# Altium schematic symbol library OPL_IC.SCHLIB: 50 symbols
Pins are listed as number, name and electrical type; pins without a type are passive.

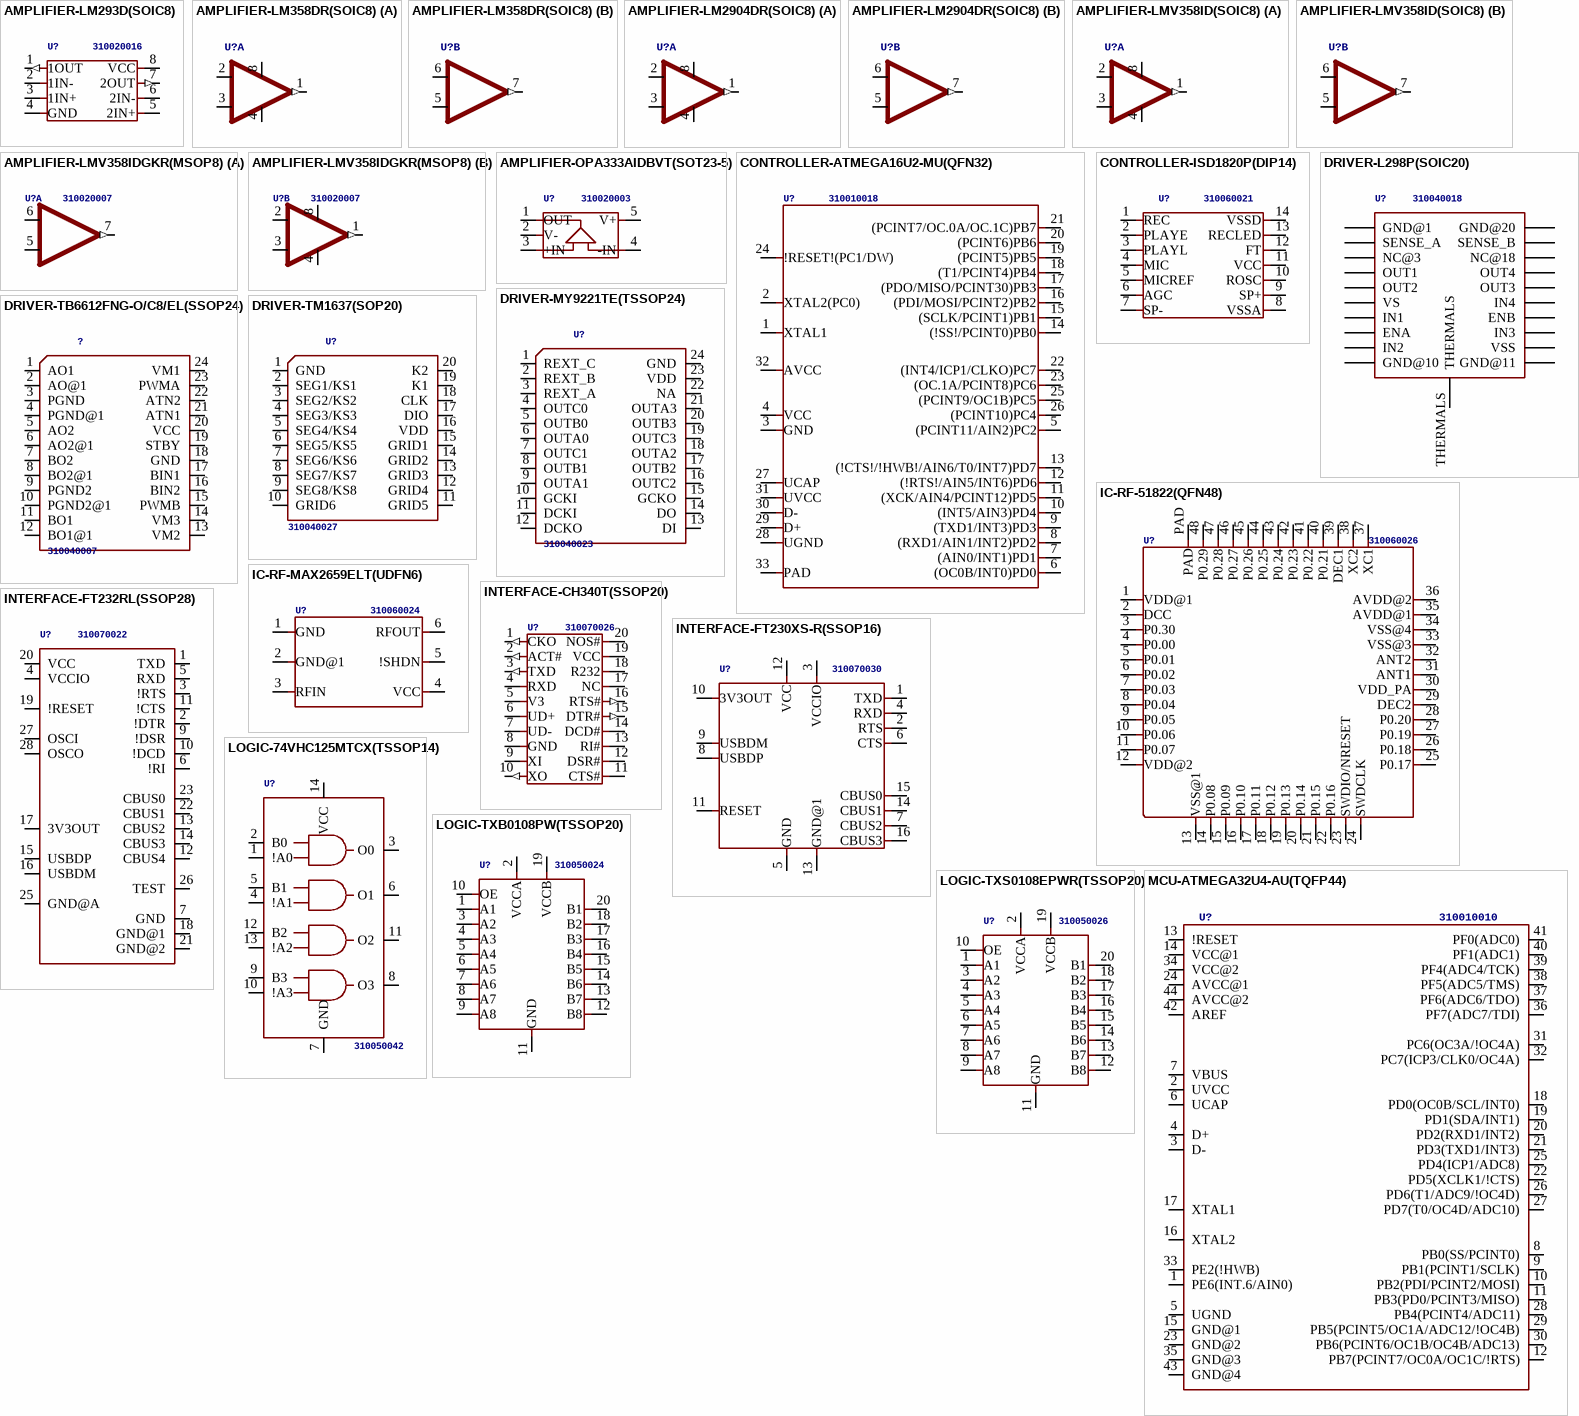
[diagram p0: symbols AMPLIFIER-LM293D(SOIC8) to MCU-ATMEGA32U4-AU(TQFP44)]

## AMPLIFIER-LM293D(SOIC8)
designator U?, comment 310020016
MPN: LM293D
footprint SOIC8-1.27-5X4MM
pins: 1 1OUT (out), 2 1IN-, 3 1IN+, 4 GND (oe), 5 2IN+, 6 2IN-, 7 2OUT (out), 8 VCC (oe)

## AMPLIFIER-LM358DR(SOIC8)
designator U?, comment 310020021  (value not drawn)
MPN: LM358DR
footprint SOIC8-1.27-5X4MM
part A pins: 1 OUT1 (out), 2 -IN1, 3 +IN1, 4 GND (power), 8 +V (power)
part B pins: 5 +IN2, 6 -IN2, 7 OUT2 (out)

## AMPLIFIER-LM2904DR(SOIC8)
designator U?, comment 310020015  (value not drawn)
MPN: LM2904DR
footprint SOIC8-1.27-5X4MM
part A pins: 1 OUT1 (out), 2 -IN1, 3 +IN1, 4 GND (power), 8 +V (power)
part B pins: 5 +IN2, 6 -IN2, 7 OUT2 (out)

## AMPLIFIER-LMV358ID(SOIC8)
designator U?, comment 310020002  (value not drawn)
MPN: LMV358ID
footprint SOIC8-1.27-5X4MM
part A pins: 1 OUT1 (out), 2 -IN1, 3 +IN1, 4 GND (power), 8 +V (power)
part B pins: 5 +IN2, 6 -IN2, 7 OUT2 (out)

## AMPLIFIER-LMV358IDGKR(MSOP8)
designator U?, comment 310020007
MPN: LMV358IDGKR
footprint MSOP8-0.65-3X3MM
part A pins: 5 +IN2, 6 -IN2, 7 OUT2 (out)
part B pins: 1 OUT1 (out), 2 -IN1, 3 +IN1, 4 GND (power), 8 +V (power)

## AMPLIFIER-OPA333AIDBVT(SOT23-5)
designator U?, comment 310020003
MPN: OPA333AIDBVT
footprint SOT-23-5
pins: 1 OUT, 2 V-, 3 +IN, 4 -IN, 5 V+

## CONTROLLER-ATMEGA16U2-MU(QFN32)
designator U?, comment 310010018
footprint QFN32G-0.5-5X5MM
pins: 1 XTAL1, 2 XTAL2(PC0), 3 GND, 4 VCC, 5 (PCINT11/AIN2)PC2, 6 (OC0B/INT0)PD0, 7 (AIN0/INT1)PD1, 8 (RXD1/AIN1/INT2)PD2, 9 (TXD1/INT3)PD3, 10 (INT5/AIN3)PD4, 11 (XCK/AIN4/PCINT12)PD5, 12 (!RTS!/AIN5/INT6)PD6, 13 (!CTS!/!HWB!/AIN6/T0/INT7)PD7, 14 (!SS!/PCINT0)PB0, 15 (SCLK/PCINT1)PB1, 16 (PDI/MOSI/PCINT2)PB2, 17 (PDO/MISO/PCINT30)PB3, 18 (T1/PCINT4)PB4, 19 (PCINT5)PB5, 20 (PCINT6)PB6, 21 (PCINT7/OC.0A/OC.1C)PB7, 22 (INT4/ICP1/CLKO)PC7, 23 (OC.1A/PCINT8)PC6, 24 !RESET!(PC1/DW), 25 (PCINT9/OC1B)PC5, 26 (PCINT10)PC4, 27 UCAP, 28 UGND, 29 D+, 30 D-, 31 UVCC, 32 AVCC, 33 PAD

## CONTROLLER-ISD1820P(DIP14)
designator U?, comment 310060021
footprint DIP14-2.54-17.24X6.35MM
pins: 1 REC, 2 PLAYE, 3 PLAYL, 4 MIC, 5 MICREF, 6 AGC, 7 SP-, 8 VSSA, 9 SP+, 10 ROSC, 11 VCC, 12 FT, 13 RECLED, 14 VSSD

## DRIVER-L298P(SOIC20)
designator U?, comment 310040018
MPN: L298P
footprint SOIC20G-1.27-16X11MM
pins: 1 GND@1, 2 SENSE_A, 3 NC@3, 4 OUT1, 5 OUT2, 6 VS, 7 IN1, 8 ENA, 9 IN2, 10 GND@10, 11 GND@11, 12 VSS, 13 IN3, 14 ENB, 15 IN4, 16 OUT3, 17 OUT4, 18 NC@18, 19 SENSE_B, 20 GND@20, THERMALS

## DRIVER-MY9221TE(TSSOP24)
designator U?, comment 310040023
MPN: MY9221
footprint TSSOP24-0.65-7.8X4.4MM
pins: 1 REXT_C, 2 REXT_B, 3 REXT_A, 4 OUTC0, 5 OUTB0, 6 OUTA0, 7 OUTC1, 8 OUTB1, 9 OUTA1, 10 GCKI, 11 DCKI, 12 DCKO, 13 DI, 14 DO, 15 GCKO, 16 OUTC2, 17 OUTB2, 18 OUTA2, 19 OUTC3, 20 OUTB3, 21 OUTA3, 22 NA, 23 VDD, 24 GND

## DRIVER-TB6612FNG-O/C8/EL(SSOP24)
designator ?, comment 310040007
MPN: TB6612FNG-O/C8/EL
footprint SSOP24-0.65-8.9X5.3MM
pins: 1 AO1, 2 AO@1, 3 PGND, 4 PGND@1, 5 AO2, 6 AO2@1, 7 BO2, 8 BO2@1, 9 PGND2, 10 PGND2@1, 11 BO1, 12 BO1@1, 13 VM2, 14 VM3, 15 PWMB, 16 BIN2, 17 BIN1, 18 GND, 19 STBY, 20 VCC, 21 ATN1, 22 ATN2, 23 PWMA, 24 VM1

## DRIVER-TM1637(SOP20)
designator U?, comment 310040027
MPN: TM1637
footprint SOP20-1.27-12.7X7.65MM
pins: 1 GND, 2 SEG1/KS1, 3 SEG2/KS2, 4 SEG3/KS3, 5 SEG4/KS4, 6 SEG5/KS5, 7 SEG6/KS6, 8 SEG7/KS7, 9 SEG8/KS8, 10 GRID6, 11 GRID5, 12 GRID4, 13 GRID3, 14 GRID2, 15 GRID1, 16 VDD, 17 DIO, 18 CLK, 19 K1, 20 K2

## IC-RF-51822(QFN48)
designator U?, comment 310060026
MPN: RF-51822
footprint QFN48G-0.4-6X6MM
pins: 1 VDD@1, 2 DCC, 3 P0.30, 4 P0.00, 5 P0.01, 6 P0.02, 7 P0.03, 8 P0.04, 9 P0.05, 10 P0.06, 11 P0.07, 12 VDD@2, 13 VSS@1, 14 P0.08, 15 P0.09, 16 P0.10, 17 P0.11, 18 P0.12, 19 P0.13, 20 P0.14, 21 P0.15, 22 P0.16, 23 SWDIO/NRESET, 24 SWDCLK, 25 P0.17, 26 P0.18, 27 P0.19, 28 P0.20, 29 DEC2, 30 VDD_PA, 31 ANT1, 32 ANT2, 33 VSS@3, 34 VSS@4, 35 AVDD@1, 36 AVDD@2, 37 XC1, 38 XC2, 39 DEC1, 40 P0.21, 41 P0.22, 42 P0.23, 43 P0.24, 44 P0.25, 45 P0.26, 46 P0.27, 47 P0.28, 48 P0.29, PAD

## IC-RF-MAX2659ELT(UDFN6)
designator U?, comment 310060024
MPN: MAX2659ELT
footprint DFN6-0.5-1.5X1.0X0.72MM
pins: 1 GND (oe), 2 GND@1 (oe), 3 RFIN, 4 VCC, 5 !SHDN, 6 RFOUT

## INTERFACE-CH340T(SSOP20)
designator U?, comment 310070026
MPN: CH340T
footprint SSOP20-0.65-7.6X5.2MM
pins: 1 CKO (out), 2 ACT# (out), 3 TXD (out), 4 RXD, 5 V3 (oe), 6 UD+, 7 UD-, 8 GND (oe), 9 XI, 10 XO (out), 11 CTS#, 12 DSR#, 13 RI#, 14 DCD#, 15 DTR# (out), 16 RTS# (out), 17 NC, 18 R232, 19 VCC (oe), 20 NOS# (oe)

## INTERFACE-FT230XS-R(SSOP16)
designator U?, comment 310070030
MPN: FT230XS-R
footprint SSOP16-0.635-5X4MM
pins: 1 TXD, 2 RTS, 3 VCCIO, 4 RXD, 5 GND, 6 CTS, 7 CBUS2, 8 USBDP, 9 USBDM, 10 3V3OUT, 11 RESET, 12 VCC, 13 GND@1, 14 CBUS1, 15 CBUS0, 16 CBUS3

## INTERFACE-FT232RL(SSOP28)
designator U?, comment 310070022
MPN: FT232RL
footprint SSOP28-0.65-10.2X5.2MM
pins: 1 TXD, 2 !DTR, 3 !RTS, 4 VCCIO, 5 RXD, 6 !RI, 7 GND, 9 !DSR, 10 !DCD, 11 !CTS, 12 CBUS4, 13 CBUS2, 14 CBUS3, 15 USBDP, 16 USBDM, 17 3V3OUT, 18 GND@1, 19 !RESET, 20 VCC, 21 GND@2, 22 CBUS1, 23 CBUS0, 25 GND@A, 26 TEST, 27 OSCI, 28 OSCO

## LOGIC-74VHC125MTCX(TSSOP14)
designator U?, comment 310050042
MPN: 74VHC125MTCX
footprint TSSOP14-0.65-5X4.4MM
pins: 1 !A0 (oe), 2 B0, 3 O0, 4 !A1 (oe), 5 B1, 6 O1, 7 GND (oe), 8 O3, 9 B3, 10 !A3, 11 O2, 12 B2, 13 !A2, 14 VCC (power)

## LOGIC-TXB0108PW(TSSOP20)
designator U?, comment 310050024
MPN: TXB0108PW
footprint TSSOP20-0.65-6.5X4.4MM
pins: 1 A1, 2 VCCA, 3 A2, 4 A3, 5 A4, 6 A5, 7 A6, 8 A7, 9 A8, 10 OE, 11 GND, 12 B8, 13 B7, 14 B6, 15 B5, 16 B4, 17 B3, 18 B2, 19 VCCB, 20 B1

## LOGIC-TXS0108EPWR(TSSOP20)
designator U?, comment 310050026
MPN: TXS0108EPWR
footprint TSSOP20-0.65-6.5X4.4MM
pins: 1 A1, 2 VCCA, 3 A2, 4 A3, 5 A4, 6 A5, 7 A6, 8 A7, 9 A8, 10 OE, 11 GND, 12 B8, 13 B7, 14 B6, 15 B5, 16 B4, 17 B3, 18 B2, 19 VCCB, 20 B1

## MCU-ATMEGA32U4-AU(TQFP44)
designator U?, comment 310010010
MPN: ATMEGA32U4
footprint TQFP44-0.8-9.6X9.6MM
pins: 1 PE6(INT.6/AIN0), 2 UVCC, 3 D-, 4 D+, 5 UGND, 6 UCAP, 7 VBUS, 8 PB0(SS/PCINT0), 9 PB1(PCINT1/SCLK), 10 PB2(PDI/PCINT2/MOSI), 11 PB3(PD0/PCINT3/MISO), 12 PB7(PCINT7/OC0A/OC1C/!RTS), 13 !RESET, 14 VCC@1, 15 GND@1, 16 XTAL2, 17 XTAL1, 18 PD0(OC0B/SCL/INT0), 19 PD1(SDA/INT1), 20 PD2(RXD1/INT2), 21 PD3(TXD1/INT3), 22 PD5(XCLK1/!CTS), 23 GND@2, 24 AVCC@1, 25 PD4(ICP1/ADC8), 26 PD6(T1/ADC9/!OC4D), 27 PD7(T0/OC4D/ADC10), 28 PB4(PCINT4/ADC11), 29 PB5(PCINT5/OC1A/ADC12/!OC4B), 30 PB6(PCINT6/OC1B/OC4B/ADC13), 31 PC6(OC3A/!OC4A), 32 PC7(ICP3/CLK0/OC4A), 33 PE2(!HWB), 34 VCC@2, 35 GND@3, 36 PF7(ADC7/TDI), 37 PF6(ADC6/TDO), 38 PF5(ADC5/TMS), 39 PF4(ADC4/TCK), 40 PF1(ADC1), 41 PF0(ADC0), 42 AREF, 43 GND@4, 44 AVCC@2

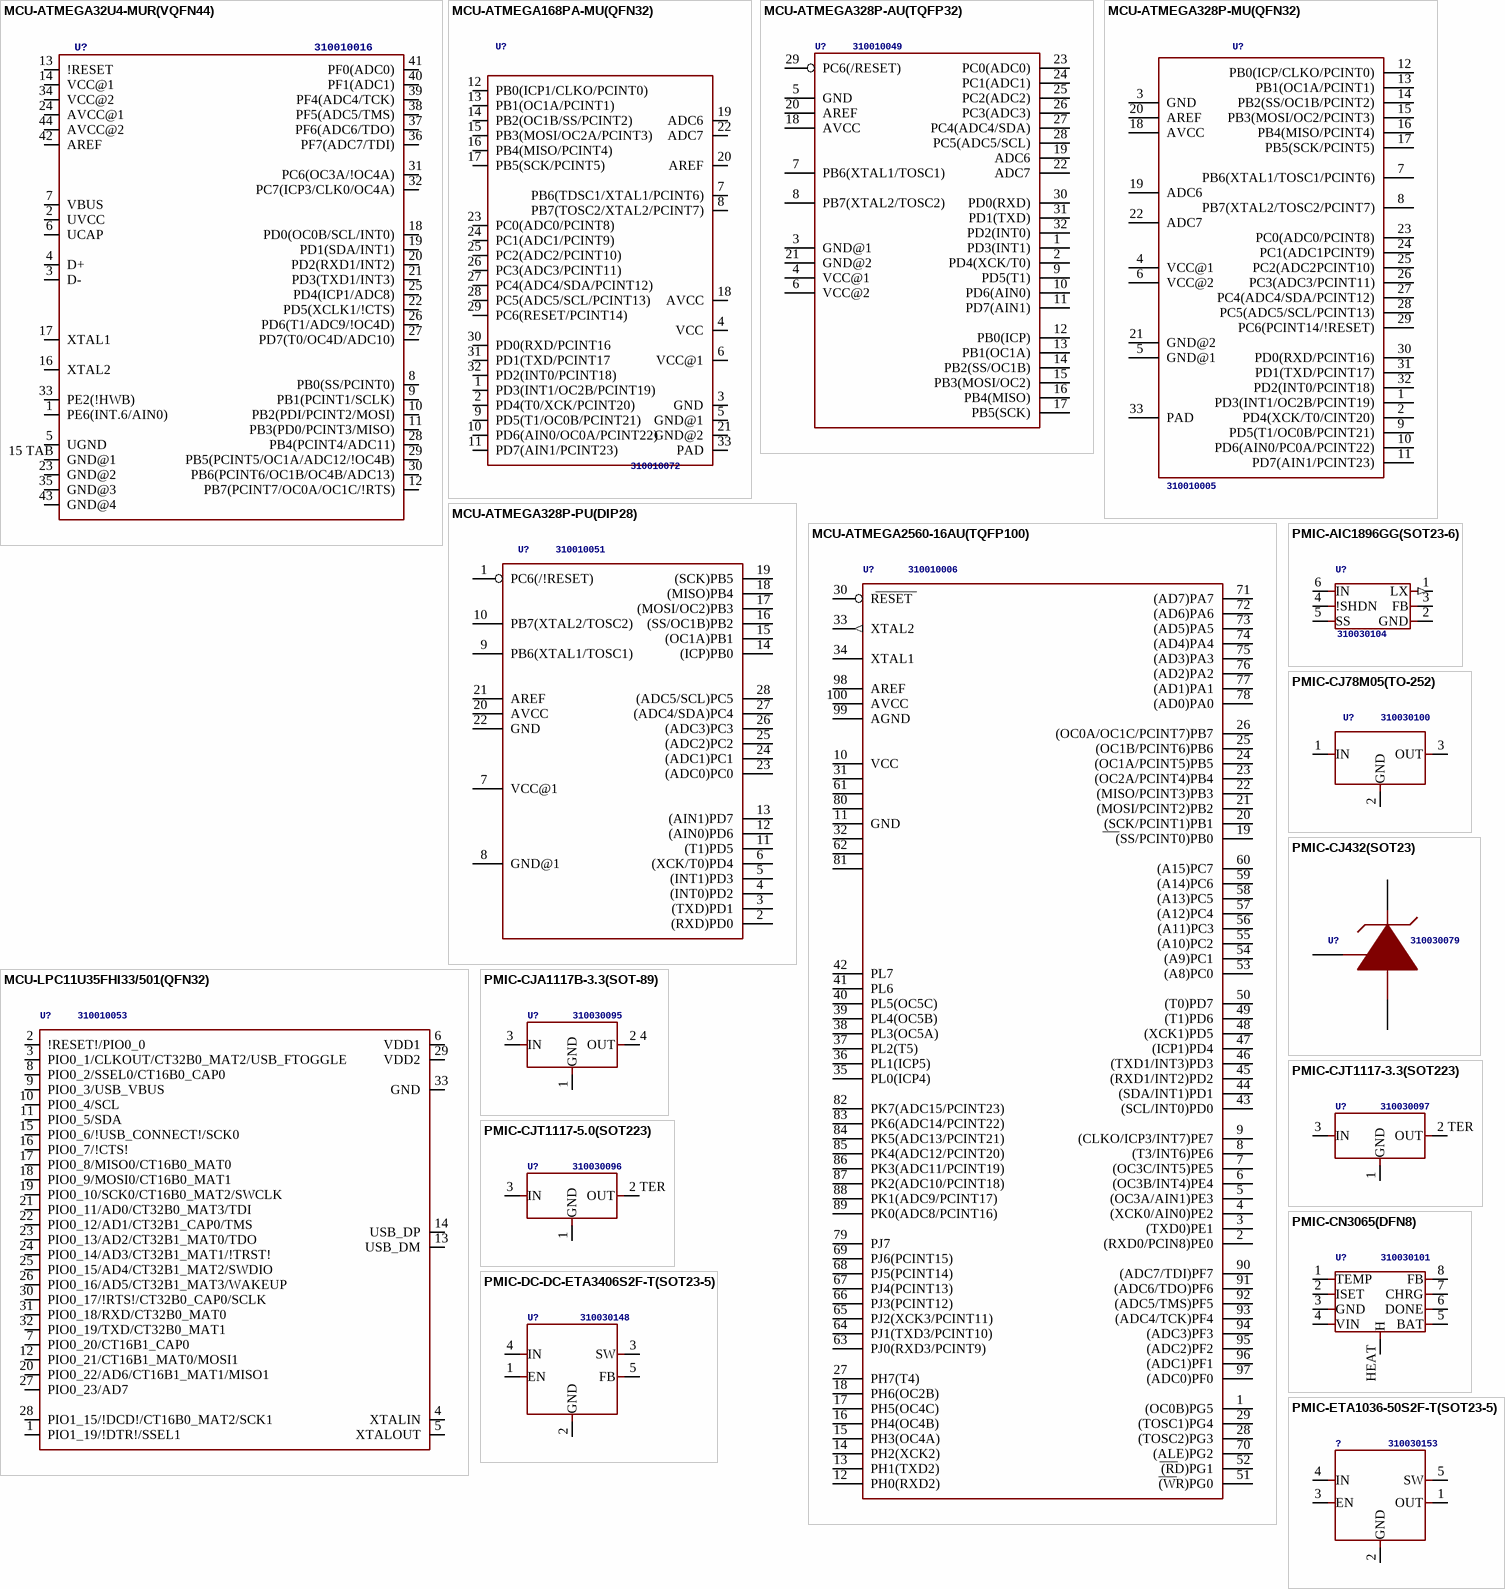
[diagram p1: symbols MCU-ATMEGA32U4-MUR(VQFN44) to PMIC-ETA1036-50S2F-T(SOT23-5)]

## MCU-ATMEGA32U4-MUR(VQFN44)
designator U?, comment 310010016
MPN: ATMEGA32U4-MUR
footprint QFN44G-0.5-7X7MM
pins: 1 PE6(INT.6/AIN0), 2 UVCC, 3 D-, 4 D+, 5 UGND, 6 UCAP, 7 VBUS, 8 PB0(SS/PCINT0), 9 PB1(PCINT1/SCLK), 10 PB2(PDI/PCINT2/MOSI), 11 PB3(PD0/PCINT3/MISO), 12 PB7(PCINT7/OC0A/OC1C/!RTS), 13 !RESET, 14 VCC@1, 15 TAB GND@1, 16 XTAL2, 17 XTAL1, 18 PD0(OC0B/SCL/INT0), 19 PD1(SDA/INT1), 20 PD2(RXD1/INT2), 21 PD3(TXD1/INT3), 22 PD5(XCLK1/!CTS), 23 GND@2, 24 AVCC@1, 25 PD4(ICP1/ADC8), 26 PD6(T1/ADC9/!OC4D), 27 PD7(T0/OC4D/ADC10), 28 PB4(PCINT4/ADC11), 29 PB5(PCINT5/OC1A/ADC12/!OC4B), 30 PB6(PCINT6/OC1B/OC4B/ADC13), 31 PC6(OC3A/!OC4A), 32 PC7(ICP3/CLK0/OC4A), 33 PE2(!HWB), 34 VCC@2, 35 GND@3, 36 PF7(ADC7/TDI), 37 PF6(ADC6/TDO), 38 PF5(ADC5/TMS), 39 PF4(ADC4/TCK), 40 PF1(ADC1), 41 PF0(ADC0), 42 AREF, 43 GND@4, 44 AVCC@2

## MCU-ATMEGA168PA-MU(QFN32)
designator U?, comment 310010072
footprint QFN32G-0.5-5X5MM
pins: 1 PD3(INT1/OC2B/PCINT19), 2 PD4(T0/XCK/PCINT20), 3 GND, 4 VCC, 5 GND@1, 6 VCC@1, 7 PB6(TDSC1/XTAL1/PCINT6), 8 PB7(TOSC2/XTAL2/PCINT7), 9 PD5(T1/OC0B/PCINT21), 10 PD6(AIN0/OC0A/PCINT22), 11 PD7(AIN1/PCINT23), 12 PB0(ICP1/CLKO/PCINT0), 13 PB1(OC1A/PCINT1), 14 PB2(OC1B/SS/PCINT2), 15 PB3(MOSI/OC2A/PCINT3), 16 PB4(MISO/PCINT4), 17 PB5(SCK/PCINT5), 18 AVCC, 19 ADC6, 20 AREF, 21 GND@2, 22 ADC7, 23 PC0(ADC0/PCINT8), 24 PC1(ADC1/PCINT9), 25 PC2(ADC2/PCINT10), 26 PC3(ADC3/PCINT11), 27 PC4(ADC4/SDA/PCINT12), 28 PC5(ADC5/SCL/PCINT13), 29 PC6(RESET/PCINT14), 30 PD0(RXD/PCINT16, 31 PD1(TXD/PCINT17, 32 PD2(INT0/PCINT18), 33 PAD

## MCU-ATMEGA328P-AU(TQFP32)
designator U?, comment 310010049
MPN: ATMEGA328P-AU
footprint TQFP32-0.8-7X7MM
pins: 1 PD3(INT1), 2 PD4(XCK/T0), 3 GND@1, 4 VCC@1, 5 GND, 6 VCC@2, 7 PB6(XTAL1/TOSC1), 8 PB7(XTAL2/TOSC2), 9 PD5(T1), 10 PD6(AIN0), 11 PD7(AIN1), 12 PB0(ICP), 13 PB1(OC1A), 14 PB2(SS/OC1B), 15 PB3(MOSI/OC2), 16 PB4(MISO), 17 PB5(SCK), 18 AVCC, 19 ADC6, 20 AREF, 21 GND@2, 22 ADC7, 23 PC0(ADC0), 24 PC1(ADC1), 25 PC2(ADC2), 26 PC3(ADC3), 27 PC4(ADC4/SDA), 28 PC5(ADC5/SCL), 29 PC6(/RESET), 30 PD0(RXD), 31 PD1(TXD), 32 PD2(INT0)

## MCU-ATMEGA328P-MU(QFN32)
designator U?, comment 310010005
MPN: ATMEGA328P-MU
footprint QFN32G-0.5-5X5MM
pins: 1 PD3(INT1/OC2B/PCINT19), 2 PD4(XCK/T0/CINT20), 3 GND, 4 VCC@1, 5 GND@1, 6 VCC@2, 7 PB6(XTAL1/TOSC1/PCINT6), 8 PB7(XTAL2/TOSC2/PCINT7), 9 PD5(T1/OC0B/PCINT21), 10 PD6(AIN0/PC0A/PCINT22), 11 PD7(AIN1/PCINT23), 12 PB0(ICP/CLKO/PCINT0), 13 PB1(OC1A/PCINT1), 14 PB2(SS/OC1B/PCINT2), 15 PB3(MOSI/OC2/PCINT3), 16 PB4(MISO/PCINT4), 17 PB5(SCK/PCINT5), 18 AVCC, 19 ADC6, 20 AREF, 21 GND@2, 22 ADC7, 23 PC0(ADC0/PCINT8), 24 PC1(ADC1PCINT9), 25 PC2(ADC2PCINT10), 26 PC3(ADC3/PCINT11), 27 PC4(ADC4/SDA/PCINT12), 28 PC5(ADC5/SCL/PCINT13), 29 PC6(PCINT14/!RESET), 30 PD0(RXD/PCINT16), 31 PD1(TXD/PCINT17), 32 PD2(INT0/PCINT18), 33 PAD

## MCU-ATMEGA328P-PU(DIP28)
designator U?, comment 310010051
MPN: ATMEGA328P-PU
footprint DIP28-2.54-34.7X7.62MM
pins: 1 PC6(/!RESET), 2 (RXD)PD0, 3 (TXD)PD1, 4 (INT0)PD2, 5 (INT1)PD3, 6 (XCK/T0)PD4, 7 VCC@1, 8 GND@1, 9 PB6(XTAL1/TOSC1), 10 PB7(XTAL2/TOSC2), 11 (T1)PD5, 12 (AIN0)PD6, 13 (AIN1)PD7, 14 (ICP)PB0, 15 (OC1A)PB1, 16 (SS/OC1B)PB2, 17 (MOSI/OC2)PB3, 18 (MISO)PB4, 19 (SCK)PB5, 20 AVCC, 21 AREF, 22 GND, 23 (ADC0)PC0, 24 (ADC1)PC1, 25 (ADC2)PC2, 26 (ADC3)PC3, 27 (ADC4/SDA)PC4, 28 (ADC5/SCL)PC5

## MCU-ATMEGA2560-16AU(TQFP100)
designator U?, comment 310010006
MPN: ATMEGA2560-16AU
footprint TQFP100-0.5-14X14MM
pins: 1 (OC0B)PG5, 2 (RXD0/PCIN8)PE0, 3 (TXD0)PE1, 4 (XCK0/AIN0)PE2, 5 (OC3A/AIN1)PE3, 6 (OC3B/INT4)PE4, 7 (OC3C/INT5)PE5, 8 (T3/INT6)PE6, 9 (CLKO/ICP3/INT7)PE7, 10 VCC (power), 11 GND (power), 12 PH0(RXD2), 13 PH1(TXD2), 14 PH2(XCK2), 15 PH3(OC4A), 16 PH4(OC4B), 17 PH5(OC4C), 18 PH6(OC2B), 19 (SS/PCINT0)PB0, 20 (SCK/PCINT1)PB1, 21 (MOSI/PCINT2)PB2, 22 (MISO/PCINT3)PB3, 23 (OC2A/PCINT4)PB4, 24 (OC1A/PCINT5)PB5, 25 (OC1B/PCINT6)PB6, 26 (OC0A/OC1C/PCINT7)PB7, 27 PH7(T4), 28 (TOSC2)PG3, 29 (TOSC1)PG4, 30 RESET, 31 VCC1 (power), 32 GND1 (power), 33 XTAL2 (out), 34 XTAL1, 35 PL0(ICP4), 36 PL1(ICP5), 37 PL2(T5), 38 PL3(OC5A), 39 PL4(OC5B), 40 PL5(OC5C), 41 PL6, 42 PL7, 43 (SCL/INT0)PD0, 44 (SDA/INT1)PD1, 45 (RXD1/INT2)PD2, 46 (TXD1/INT3)PD3, 47 (ICP1)PD4, 48 (XCK1)PD5, 49 (T1)PD6, 50 (T0)PD7, 51 (WR)PG0, 52 (RD)PG1, 53 (A8)PC0, 54 (A9)PC1, 55 (A10)PC2, 56 (A11)PC3, 57 (A12)PC4, 58 (A13)PC5, 59 (A14)PC6, 60 (A15)PC7, 61 VCC2 (power), 62 GND2 (power), 63 PJ0(RXD3/PCINT9), 64 PJ1(TXD3/PCINT10), 65 PJ2(XCK3/PCINT11), 66 PJ3(PCINT12), 67 PJ4(PCINT13), 68 PJ5(PCINT14), 69 PJ6(PCINT15), 70 (ALE)PG2, 71 (AD7)PA7, 72 (AD6)PA6, 73 (AD5)PA5, 74 (AD4)PA4, 75 (AD3)PA3, 76 (AD2)PA2, 77 (AD1)PA1, 78 (AD0)PA0, 79 PJ7, 80 VCC3 (power), 81 GND3 (power), 82 PK7(ADC15/PCINT23), 83 PK6(ADC14/PCINT22), 84 PK5(ADC13/PCINT21), 85 PK4(ADC12/PCINT20), 86 PK3(ADC11/PCINT19), 87 PK2(ADC10/PCINT18), 88 PK1(ADC9/PCINT17), 89 PK0(ADC8/PCINT16), 90 (ADC7/TDI)PF7, 91 (ADC6/TDO)PF6, 92 (ADC5/TMS)PF5, 93 (ADC4/TCK)PF4, 94 (ADC3)PF3, 95 (ADC2)PF2, 96 (ADC1)PF1, 97 (ADC0)PF0, 98 AREF, 99 AGND (power), 100 AVCC (power)

## MCU-LPC11U35FHI33/501(QFN32)
designator U?, comment 310010053
MPN: LPC11U35FHI33/501
footprint QFN32G-0.5-5X5MM
pins: 1 PIO1_19/!DTR!/SSEL1, 2 !RESET!/PIO0_0, 3 PIO0_1/CLKOUT/CT32B0_MAT2/USB_FTOGGLE, 4 XTALIN, 5 XTALOUT, 6 VDD1, 7 PIO0_20/CT16B1_CAP0, 8 PIO0_2/SSEL0/CT16B0_CAP0, 9 PIO0_3/USB_VBUS, 10 PIO0_4/SCL, 11 PIO0_5/SDA, 12 PIO0_21/CT16B1_MAT0/MOSI1, 13 USB_DM, 14 USB_DP, 15 PIO0_6/!USB_CONNECT!/SCK0, 16 PIO0_7/!CTS!, 17 PIO0_8/MISO0/CT16B0_MAT0, 18 PIO0_9/MOSI0/CT16B0_MAT1, 19 PIO0_10/SCK0/CT16B0_MAT2/SWCLK, 20 PIO0_22/AD6/CT16B1_MAT1/MISO1, 21 PIO0_11/AD0/CT32B0_MAT3/TDI, 22 PIO0_12/AD1/CT32B1_CAP0/TMS, 23 PIO0_13/AD2/CT32B1_MAT0/TDO, 24 PIO0_14/AD3/CT32B1_MAT1/!TRST!, 25 PIO0_15/AD4/CT32B1_MAT2/SWDIO, 26 PIO0_16/AD5/CT32B1_MAT3/WAKEUP, 27 PIO0_23/AD7, 28 PIO1_15/!DCD!/CT16B0_MAT2/SCK1, 29 VDD2, 30 PIO0_17/!RTS!/CT32B0_CAP0/SCLK, 31 PIO0_18/RXD/CT32B0_MAT0, 32 PIO0_19/TXD/CT32B0_MAT1, 33 GND

## PMIC-AIC1896GG(SOT23-6)
designator U?, comment 310030104
MPN: AIC1896CG
footprint SOT-23-6
pins: 1 LX (out), 2 GND (power), 3 FB, 4 !SHDN, 5 SS, 6 IN

## PMIC-CJ78M05(TO-252)
designator U?, comment 310030100
MPN: CJ78M05
footprint TO-252
pins: 1 IN, 2 GND, 3 OUT

## PMIC-CJ432(SOT23)
designator U?, comment 310030079
MPN: CJ432
footprint SOT-23
pins: 1 REFERENCE, 2 CATHODE, 3 ANODE

## PMIC-CJA1117B-3.3(SOT-89)
designator U?, comment 310030095
MPN: CJA1117B-3.3
footprint SOT-89
pins: 1 GND, 2 4 OUT, 3 IN

## PMIC-CJT1117-3.3(SOT223)
designator U?, comment 310030097
MPN: CJT1117-3.3
footprint SOT-223
pins: 1 GND, 2 TER OUT, 3 IN

## PMIC-CJT1117-5.0(SOT223)
designator U?, comment 310030096
MPN: CJT1117-5.0
footprint SOT-223
pins: 1 GND, 2 TER OUT, 3 IN

## PMIC-CN3065(DFN8)
designator U?, comment 310030101
MPN: CN3065
footprint DFN8G-0.5-3X3MM
pins: 1 TEMP, 2 ISET, 3 GND (oe), 4 VIN, 5 BAT, 6 DONE, 7 CHRG, 8 FB, HEAT H

## PMIC-DC-DC-ETA3406S2F-T(SOT23-5)
designator U?, comment 310030148
MPN: ETA3406S2F-T
footprint SOT-23-5
pins: 1 EN, 2 GND, 3 SW, 4 IN, 5 FB

## PMIC-ETA1036-50S2F-T(SOT23-5)
designator ?, comment 310030153
MPN: ETA1036-50S2F-T
footprint SOT-23-5
pins: 1 OUT, 2 GND, 3 EN, 4 IN, 5 SW

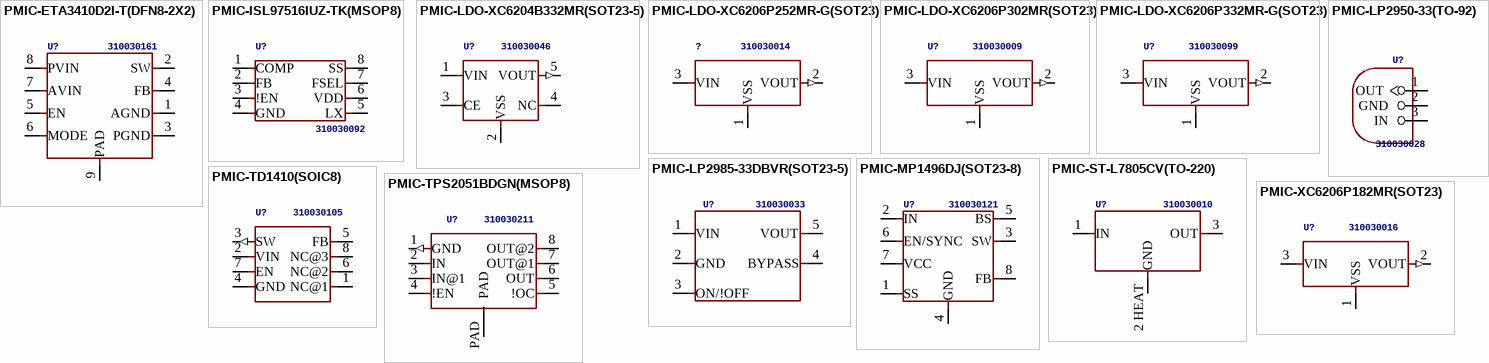
[diagram p2: symbols PMIC-ETA3410D2I-T(DFN8-2X2) to PMIC-XC6206P182MR(SOT23)]

## PMIC-ETA3410D2I-T(DFN8-2X2)
designator U?, comment 310030161
MPN: ETA3410D2I-T
footprint DFN8G-0.5-2X2MM
pins: 1 AGND, 2 SW, 3 PGND, 4 FB, 5 EN, 6 MODE, 7 AVIN, 8 PVIN, 9 PAD

## PMIC-ISL97516IUZ-TK(MSOP8)
designator U?, comment 310030092
MPN: ISL97516IUZ-TK
footprint MSOP8-0.65-3X3MM
pins: 1 COMP, 2 FB, 3 !EN, 4 GND (oe), 5 LX, 6 VDD (power), 7 FSEL, 8 SS

## PMIC-LDO-XC6204B332MR(SOT23-5)
designator U?, comment 310030046
MPN: XC6204B332MR
footprint SOT-23-5
pins: 1 VIN, 2 VSS (oe), 3 CE, 4 NC, 5 VOUT (out)

## PMIC-LDO-XC6206P252MR-G(SOT23)
designator ?, comment 310030014
MPN: XC6206P252MR-G
footprint SOT-23
pins: 1 VSS (oe), 2 VOUT (out), 3 VIN

## PMIC-LDO-XC6206P302MR(SOT23)
designator U?, comment 310030009
MPN: XC6206P302MR
footprint SOT-23
pins: 1 VSS (oe), 2 VOUT (out), 3 VIN

## PMIC-LDO-XC6206P332MR-G(SOT23)
designator U?, comment 310030099
MPN: XC6206P332MR-G
footprint SOT-23
pins: 1 VSS (oe), 2 VOUT (out), 3 VIN

## PMIC-LP2950-33(TO-92)
designator U?, comment 310030028
MPN: LP2950-33
footprint TO-92
pins: 1 OUT, 2 GND, 3 IN

## PMIC-LP2985-33DBVR(SOT23-5)
designator U?, comment 310030033
MPN: LP2985-33DBVR
footprint SOT-23-5
pins: 1 VIN, 2 GND, 3 ON/!OFF, 4 BYPASS, 5 VOUT

## PMIC-MP1496DJ(SOT23-8)
designator U?, comment 310030121
MPN: MP1496DJ
footprint SOT-23-8
pins: 1 SS, 2 IN, 3 SW, 4 GND, 5 BS, 6 EN/SYNC, 7 VCC, 8 FB

## PMIC-ST-L7805CV(TO-220)
designator U?, comment 310030010
MPN: L7805CV
footprint TO-220
pins: 1 IN, 2 HEAT GND, 3 OUT

## PMIC-TD1410(SOIC8)
designator U?, comment 310030105
MPN: TD1410
footprint SOIC8-1.27-5X4MM
pins: 1 NC@1, 2 VIN, 3 SW (out), 4 GND (oe), 5 FB, 6 NC@2, 7 EN, 8 NC@3

## PMIC-TPS2051BDGN(MSOP8)
designator U?, comment 310030211
MPN: TPS2051BDGN
footprint MSOP8G-0.65-3X3MM
pins: 1 GND (out), 2 IN, 3 IN@1, 4 !EN (oe), 5 !OC, 6 OUT, 7 OUT@1, 8 OUT@2, PAD

## PMIC-XC6206P182MR(SOT23)
designator U?, comment 310030016
MPN: XC6206P182MR
footprint SOT-23
pins: 1 VSS (oe), 2 VOUT (out), 3 VIN